# EAGLE library part 941-RELAY (library FaBo-Relay)
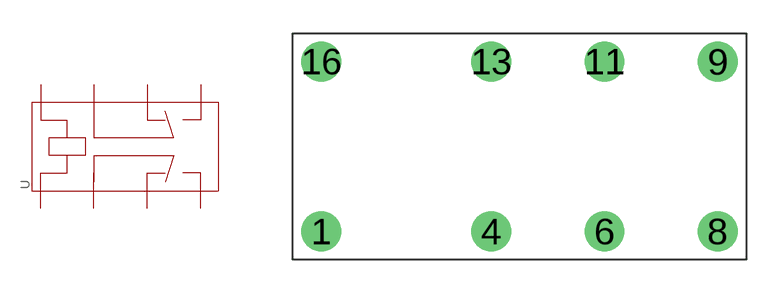
[diagram p0: symbol with the pads of 941_RELAY; footprint 941_RELAY]

Designator prefix U

## 941-RELAY  [941_RELAY]
1  1
4  4
6  6
8  8
9  9
11  11
13  13
16  16

## Footprint 941_RELAY (pad centres in mm)
drill 0.6 pad 1.778: 1 -10.16,-3.81; 4 -2.54,-3.81; 6 2.54,-3.81; 8 7.62,-3.81; 9 7.62,3.81; 11 2.54,3.81; 13 -2.54,3.81; 16 -10.16,3.81